# EAGLE library part ATMEGA328P (library pcaroli)
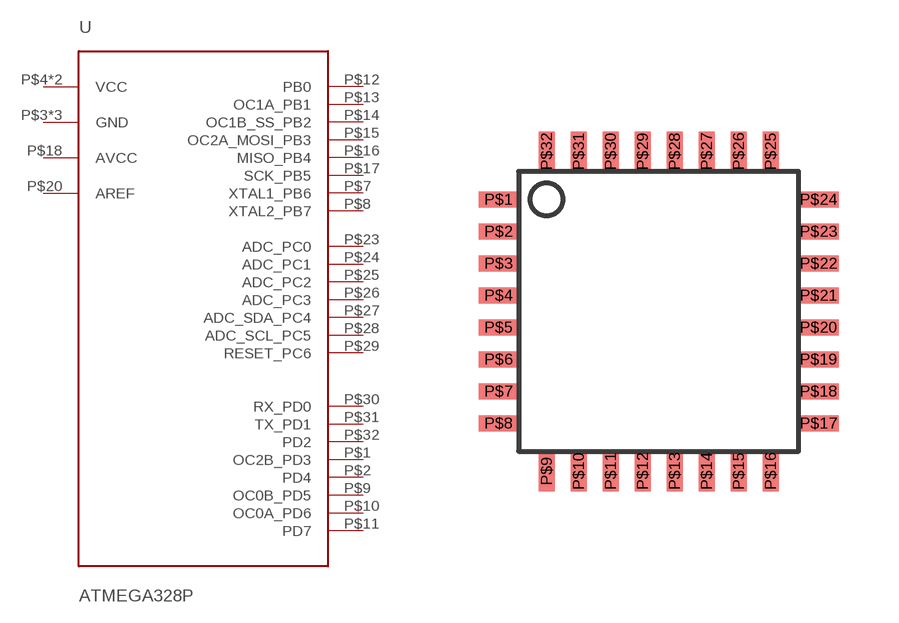
[diagram p6: symbol with the pads of TQFP32; footprint TQFP32]

Designator prefix -

## ATMEGA328P  [TQFP32]
P$1  OC2B_PD3
P$2  PD4
P$3  GND
P$4  VCC
P$5  GND
P$6  VCC
P$7  XTAL1_PB6
P$8  XTAL2_PB7
P$9  OC0B_PD5
P$10  OC0A_PD6
P$11  PD7
P$12  PB0
P$13  OC1A_PB1
P$14  OC1B_SS_PB2
P$15  OC2A_MOSI_PB3
P$16  MISO_PB4
P$17  SCK_PB5
P$18  AVCC
P$20  AREF
P$21  GND
P$23  ADC_PC0
P$24  ADC_PC1
P$25  ADC_PC2
P$26  ADC_PC3
P$27  ADC_SDA_PC4
P$28  ADC_SCL_PC5
P$29  RESET_PC6
P$30  RX_PD0
P$31  TX_PD1
P$32  PD2

## Footprint TQFP32 (pad centres in mm)
smd 1 x 0.4: P$1 -4,2.8; P$2 -4,2; P$3 -4,1.2; P$4 -4,0.4; P$5 -4,-0.4; P$6 -4,-1.2; P$7 -4,-2; P$8 -4,-2.8; P$17 4,-2.8; P$18 4,-2; P$19 4,-1.2; P$20 4,-0.4; P$21 4,0.4; P$22 4,1.2; P$23 4,2; P$24 4,2.8
smd 0.4 x 1: P$9 -2.8,-4; P$10 -2,-4; P$11 -1.2,-4; P$12 -0.4,-4; P$13 0.4,-4; P$14 1.2,-4; P$15 2,-4; P$16 2.8,-4; P$25 2.8,4; P$26 2,4; P$27 1.2,4; P$28 0.4,4; P$29 -0.4,4; P$30 -1.2,4; P$31 -2,4; P$32 -2.8,4